# EAGLE library part XC6210B502PR-G (library XC6210B502PR-G)
LDO Voltage Regulators 700mA High Speed LDO Regulator Source: Datasheet <https://www.torex.co.jp/file/xc6210/XC6210-j.pdf>
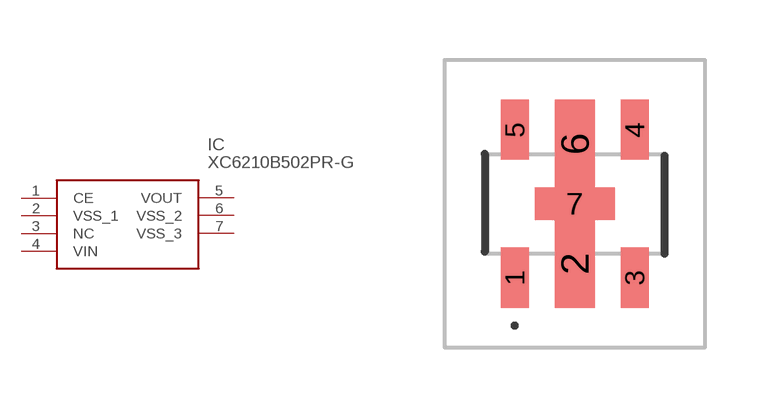
[diagram p0: symbol with the pads of XC6210B502PRG; footprint XC6210B502PRG]

Designator prefix IC

## XC6210B502PR-G (Description: LDO Voltage Regulators 700mA High Speed LDO Regulator; Height: 1.6mm; Manufacturer_Name: Torex; Manufacturer_Part_Number: XC6210B502PR-G; Mouser_Part_Number: 865-XC6210B502PR-G; Mouser_Price-Stock: https://www.mouser.co.uk/ProductDetail/Torex-Semiconductor/XC6210B502PR-G?qs=AsjdqWjXhJ8XXo5wZ7cEHQ%3D%3D)  [XC6210B502PRG]
1  CE
2  VSS_1
3  NC  nc
4  VIN
5  VOUT
6  VSS_2
7  VSS_3

## Footprint XC6210B502PRG (pad centres in mm)
SOT-89-5 _2022
smd 0.7 x 1.5: 1 -1.5,-1.85; 3 1.5,-1.85; 4 1.5,1.85; 5 -1.5,1.85
smd 1 x 2.2: 2 0,-1.5; 6 0,1.5
smd 2 x 0.8: 7 0,0